# Altium footprint library Lib1.PcbLib: 70 footprints (part 1 of 5)
Each footprint in its own frame and in the unit in brackets; x right, y up, seen from the top. Pads: shape width x height; smd on the part's side, far side on the other; paste and mask are expansions set on the pad; w line width, h text height; cw(c..) or ccw(c..) is an arc to the next point about the centre after c.
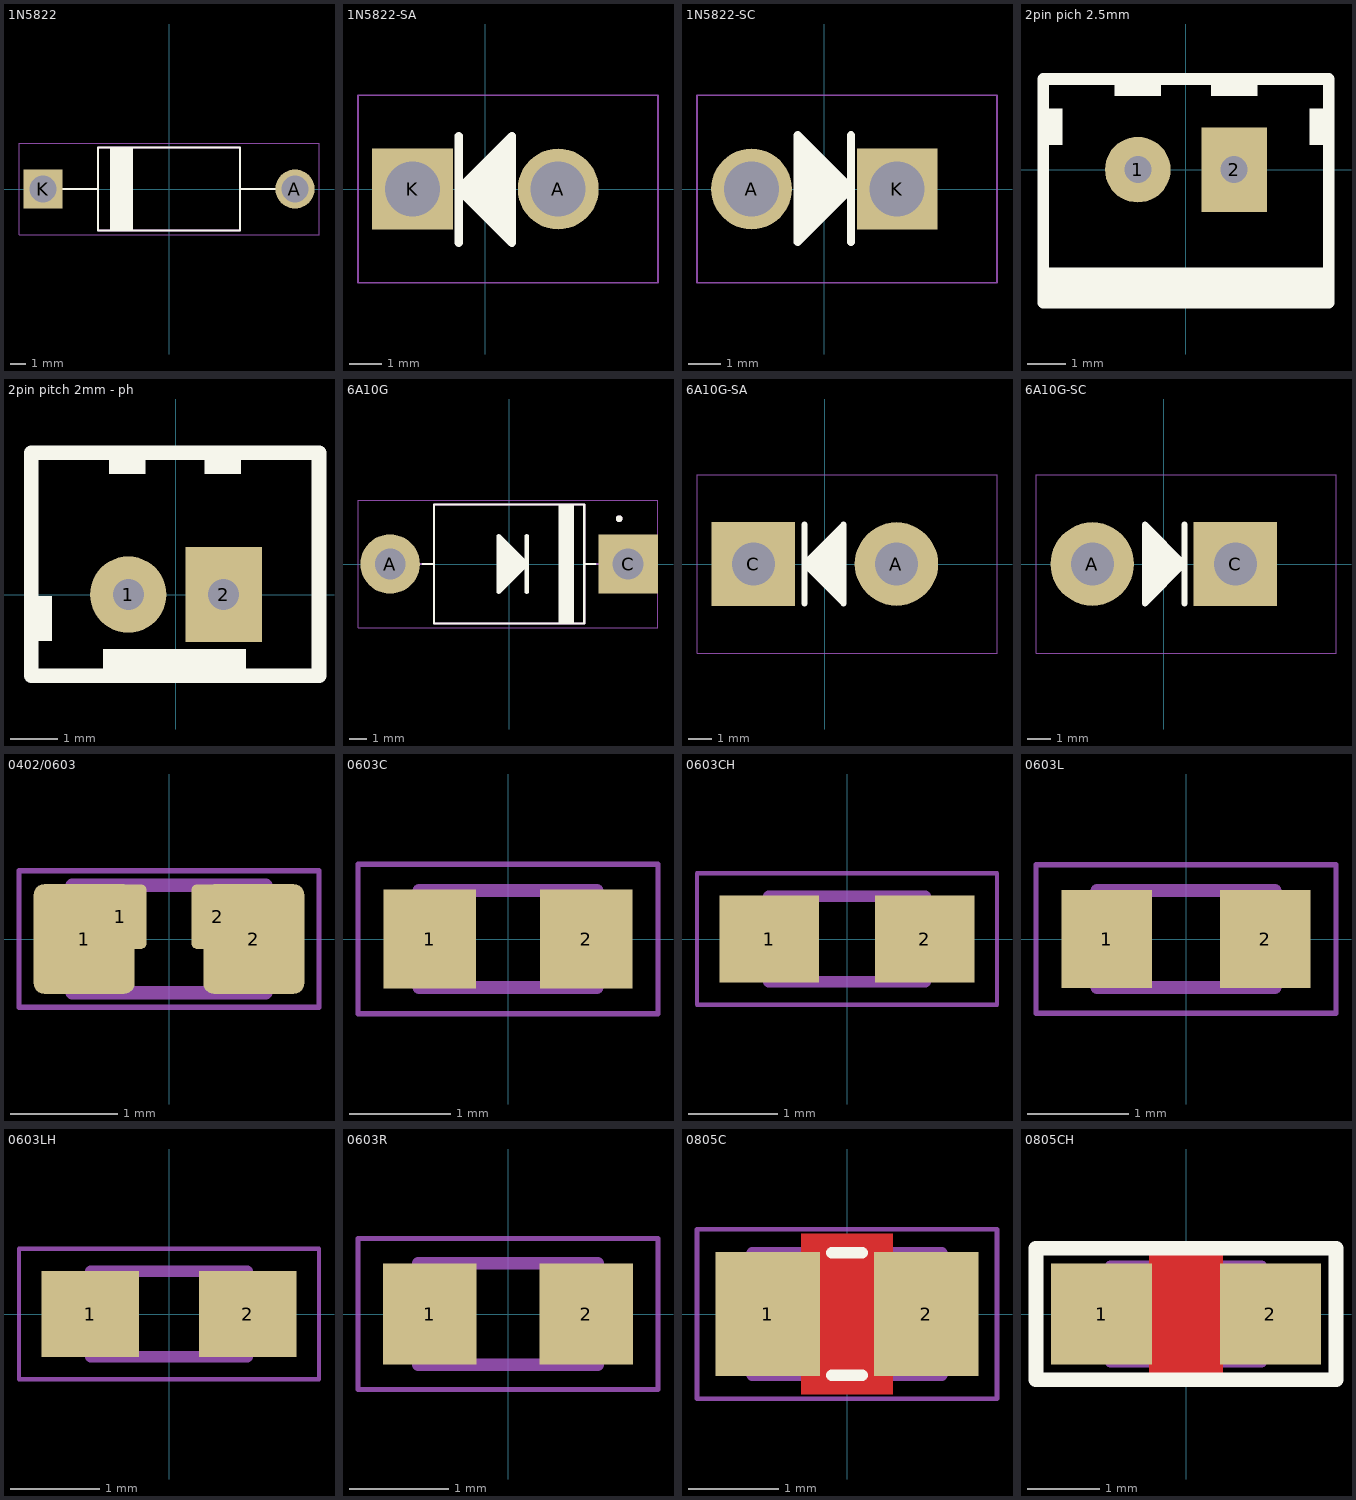
[diagram p0: the footprints below, top view; thin cyan lines are the x and y axes]

## 1N5822 [mm]
pads (2):
  round 2.5 hole 1.7: A(8,0)
  rect 2.5x2.5 hole 1.7: K(-8,0)
Top Overlay:
  rectangle: -3.738,-2.65 -2.286,2.667
  lines w0.127: -8.47,0 -4.5,0 ; 8,0 4.5,0 ; -4.5,0 -4.5,-2.65 4.5,-2.65 4.5,0 ; -4.5,0 -4.5,2.65 4.5,2.65 4.5,0
Mechanical 13:
  lines w0.127: -8,0 -4.5,0 ; 7.944,0 4.5,0 ; -4.5,0 -4.5,-2.65 4.5,-2.65 4.5,0 ; -4.5,0 -4.5,2.65 4.5,2.65 4.5,0
Mechanical 15:
  lines w0.05: -9.525,-2.9 9.525,-2.9 9.525,2.9 -9.525,2.9 -9.525,-2.9
3D body "1N5822.STEP": height 6.35, standoff -16.83, extent -8.565,-3.175 8.565,3.175

## 1N5822-SA [mm] "6A10G Standing on cathode"
pads (2):
  round 2.5 hole 1.7: A(2.25,0)
  rect 2.5x2.5 hole 1.7: K(-2.25,0)
Top Overlay:
  region: 0.826,-1.662 0.826,1.64 -0.825,-0.011
  lines w0.254: -0.825,-1.662 -0.825,1.64 ; -0.825,-0.011 0.826,-1.662 0.826,1.64 -0.825,-0.011
Mechanical 15:
  lines w0.05: -3.937,-2.9 5.334,-2.9 5.334,2.9 -3.937,2.9 -3.937,-2.9
3D body "1N5822 BodySTEP.STEP": height 9.61, standoff 0.21, extent -0.925,-3.175 5.425,3.175

## 1N5822-SC [mm] "6A10G Standing on anode"
pads (2):
  round 2.5 hole 1.7: A(-2.25,0)
  rect 2.5x2.5 hole 1.7: K(2.25,0)
Top Overlay:
  region: -0.826,1.662 -0.826,-1.64 0.825,0.011
  lines w0.254: 0.825,-1.64 0.825,1.662 ; -0.826,-1.64 0.825,0.011 -0.826,1.662 -0.826,-1.64
Mechanical 15:
  lines w0.05: -3.937,-2.9 -3.937,2.9 5.334,2.9 5.334,-2.9 -3.937,-2.9
3D body "1N5822 BodySTEP.STEP": height 9.61, standoff 0.21, extent -0.925,-3.175 5.425,3.175

## 2pin pich 2.5mm [mm]
pads (2):
  round 1.7 hole 0.7: 1(-1.25,0)
  rect 1.7x2.2 hole 0.7: 2(1.25,0)
Top Overlay:
  region: 3.2,1.584 3.2,0.644 3.635,0.644 3.635,1.584
  region: -3.2,0.644 -3.2,1.584 -3.635,1.584 -3.635,0.644
  rectangle: -3.65,-3.42 3.65,-2.54
  rectangle: -1.85,1.905 -0.65,2.45
  rectangle: 0.65,1.905 1.85,2.45
  lines w0.305: -3.7,-3.45 -3.7,2.35 3.7,2.35 3.7,-3.45 -3.65,-3.45
3D body "User Library-PW10-XX-M greenPW10-2M.STEP": height 7, standoff -3.3, extent -3.741,-3.053 3.759,2.647

## 2pin pitch 2mm - ph [mm]
pads (2):
  round 1.6 hole 0.65: 1(-1,0)
  rect 1.6x2 hole 0.65: 2(1,0)
Top Overlay:
  rectangle: 0.6,2.53 1.362,3.075
  region: -2.604,-0.975 -2.604,-0.035 -3.039,-0.035 -3.039,-0.975
  rectangle: -1.527,-1.795 1.473,-1.143
  rectangle: 0.6,2.53 1.362,3.075
  rectangle: -1.4,2.53 -0.638,3.075
  lines w0.305: -1.45,2.975 3,2.975 ; 3,2.975 3,-1.7 -3.039,-1.7 -3.039,2.975 3,2.975
3D body "User Library-PCB HEADER (JST BxB-PH-K-S (VERTICAL))B2B-PH-K-S.STEP": height 1.41, standoff -6.5, extent -3.025,-1.676 2.975,2.824

## 6A10G [mm]
pads (2):
  round 3.5 hole 1.8: A(-7,0)
  rect 3.5x3.5 hole 1.8: C(7,0)
Top Overlay:
  circle w0.2: c6.477,2.667 r0.1
  region: 3.81,3.556 2.921,3.556 2.921,-3.51 3.81,-3.51
  region: -0.613,1.651 -0.613,-1.651 1.038,0
  lines w0.127: -5.08,0 -4.425,0 ; 5.08,0 4.425,0 ; -4.425,0 -4.425,-3.5 4.425,-3.5 4.425,0 ; -4.425,0 -4.425,3.5 4.425,3.5 4.425,0
  lines w0.254: 1.038,-1.651 1.038,1.651 ; -0.613,-1.651 -0.613,1.651 1.038,0 -0.613,-1.651
Mechanical 13:
  circle w0.2: c6.477,2.667 r0.1
  lines w0.127: -7,0 -4.425,0 ; 7,0 4.425,0 ; -4.425,0 -4.425,-3.5 4.425,-3.5 4.425,0 ; -4.425,0 -4.425,3.5 4.425,3.5 4.425,0
Mechanical 15:
  lines w0.05: -8.89,-3.75 -8.89,3.75 8.763,3.75 8.763,-3.75 -8.89,-3.75
3D body "6A4-T.STEP": height 9.09, standoff -18.7, extent -8.245,-4.55 8.245,4.55

## 6A10G-SA [mm] "6A10G Standing on anode"
pads (2):
  round 3.5 hole 1.8: A(3,0)
  rect 3.5x3.5 hole 1.8: C(-3,0)
Top Overlay:
  region: 0.788,-1.651 0.788,1.651 -0.863,0
  lines w0.254: -0.863,-1.651 -0.863,1.651 ; -0.863,0 0.788,1.651 0.788,-1.651 -0.863,0
Mechanical 15:
  lines w0.05: -5.36,-3.75 7.213,-3.75 7.213,3.75 -5.36,3.75 -5.36,-3.75
3D body "6A4-T Body.STEP": height 9.33, standoff 0.48, extent -1.55,-4.55 7.55,4.55

## 6A10G-SC [mm] "6A10G Standing on cathode"
pads (2):
  round 3.5 hole 1.8: A(-3,0)
  rect 3.5x3.5 hole 1.8: C(3,0)
Top Overlay:
  region: -0.788,1.651 -0.788,-1.651 0.863,0
  lines w0.254: 0.863,-1.651 0.863,1.651 ; -0.788,-1.651 -0.788,1.651 0.863,0 -0.788,-1.651
Mechanical 15:
  lines w0.05: -5.36,-3.75 7.213,-3.75 7.213,3.75 -5.36,3.75 -5.36,-3.75
3D body "6A4-T Body.STEP": height 9.33, standoff 0.48, extent -1.55,-4.55 7.55,4.55

## 0402/0603 [mm]
pads (4):
  rrect20% 0.94x1.02 smd: 1(-0.79,0) 2(0.79,0)
  rrect20% 0.49x0.6 smd: 1(-0.455,0.208) 2(0.455,0.208)
Mechanical 13:
  lines w0.127: -0.9,-0.5 -0.9,0.5 0.9,0.5 0.9,-0.5 -0.9,-0.5
Mechanical 15:
  lines w0.05: -1.397,-0.635 1.397,-0.635 1.397,0.635 -1.397,0.635 -1.397,-0.635
3D body "2-1879459-5.stp": height 0.16, standoff -0.16, extent -0.5,-0.042 0.5,0.458

## 0603C [mm]
pads (2):
  rect 0.92x0.98 smd: 1(-0.775,0) 2(0.775,0)
Mechanical 13:
  lines w0.127: -0.88,-0.48 0.88,-0.48 0.88,0.48 -0.88,0.48 -0.88,-0.48
Mechanical 15:
  lines w0.05: -1.485,-0.74 1.485,-0.74 1.485,0.74 -1.485,0.74 -1.485,-0.74
3D body "0603YC223KAT2A.STEP": height 0.9, standoff 0, extent -0.8,-0.405 0.8,0.405

## 0603CH [mm]
pads (2):
  rect 1.12x0.98 smd: 1(-0.875,0) 2(0.875,0)
Mechanical 13:
  lines w0.127: -0.88,-0.48 0.88,-0.48 0.88,0.48 -0.88,0.48 -0.88,-0.48
Mechanical 15:
  lines w0.05: -1.685,-0.74 1.685,-0.74 1.685,0.74 -1.685,0.74 -1.685,-0.74
3D body "0603YC223KAT2A.STEP": height 0.9, standoff 0, extent -0.8,-0.405 0.8,0.405

## 0603L [mm]
pads (2):
  rect 0.9x0.97 smd: 1(-0.785,0) 2(0.785,0)
Mechanical 13:
  lines w0.127: -0.88,-0.48 0.88,-0.48 0.88,0.48 -0.88,0.48 -0.88,-0.48
Mechanical 15:
  lines w0.05: -1.485,-0.735 1.485,-0.735 1.485,0.735 -1.485,0.735 -1.485,-0.735
3D body "step_temp.STEP": height 0.95, standoff 0, extent -0.8,-0.4 0.8,0.4

## 0603LH [mm]
pads (2):
  rect 1.1x0.97 smd: 1(-0.885,0) 2(0.885,0)
Mechanical 13:
  lines w0.127: -0.88,-0.48 -0.88,0.48 0.88,0.48 0.88,-0.48 -0.88,-0.48
Mechanical 15:
  lines w0.05: -1.685,-0.735 -1.685,0.735 1.685,0.735 1.685,-0.735 -1.685,-0.735
3D body "step_temp.STEP": height 0.95, standoff 0, extent -0.8,-0.4 0.8,0.4

## 0603R [mm]
pads (2):
  rect 0.94x1.02 smd: 1(-0.785,0) 2(0.785,0)
Mechanical 13:
  lines w0.127: -0.9,-0.51 -0.9,0.51 0.9,0.51 0.9,-0.51 -0.9,-0.51
Mechanical 15:
  lines w0.05: -1.508,-0.761 -1.508,0.761 1.508,0.761 1.508,-0.761 -1.508,-0.761
3D body "RC0603JR-070RL--3DModel-STEP-510211.STEP": height 0.55, standoff 0, extent -0.8,-0.4 0.8,0.4

## 0805C [mm] "Standard 0805 Capacitor"
pads (2):
  rect 1.16x1.38 smd: 1(-0.88,0) 2(0.88,0)
Top Layer:
  pour cut-out: 0.508,0.889 -0.508,0.889 -0.508,-0.889 0.508,-0.889
Top Overlay:
  lines w0.127: -0.17,-0.68 0.17,-0.68 ; -0.17,0.68 0.17,0.68
Mechanical 13:
  lines w0.127: -1.05,-0.68 1.05,-0.68 1.05,0.68 -1.05,0.68 -1.05,-0.68
Mechanical 15:
  lines w0.05: -1.665,-0.94 1.665,-0.94 1.665,0.94 -1.665,0.94 -1.665,-0.94
3D body "0805YC103J4T2A.STEP": height 0.94, standoff 0, extent -1.005,-0.625 1.005,0.625

## 0805CH [mm] "0805 Capacitor for hand soldering"
pads (2):
  rect 1.4x1.4 smd: 1(-1.17,0) 2(1.17,0)
Top Layer:
  pour cut-out: 0.508,0.889 -0.508,0.889 -0.508,-0.889 0.508,-0.889
Top Overlay:
  lines w0.203: -2.079,-0.909 -2.079,0.909 2.079,0.909 2.079,-0.909 -2.079,-0.909
Mechanical 13:
  lines w0.127: -1.05,-0.68 1.05,-0.68 1.05,0.68 -1.05,0.68 -1.05,-0.68
Mechanical 15:
  lines w0.05: -2.032,-0.94 -2.032,0.94 2.032,0.94 2.032,-0.94 -2.032,-0.94
3D body "0805YC103J4T2A.STEP": height 0.94, standoff 0, extent -1.005,-0.625 1.005,0.625